# Altium schematic symbol library SCH - DRIVER - LED - TI TPS92611-Q1DGN.SchLib: 1 symbol
Pins are listed as number, name and electrical type; pins without a type are passive.

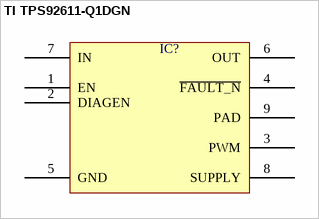
[diagram p0: symbol TI TPS92611-Q1DGN]

## TI TPS92611-Q1DGN
designator IC?  (value not drawn)
pins: 1 EN, 2 DIAGEN, 3 PWM, 4 ~{FAULT_N}, 5 GND, 6 OUT, 7 IN, 8 SUPPLY, 9 PAD